# Altium schematic symbol library op-amp-q_0.Schlib: 1 symbol
Pins are listed as number, name and electrical type; pins without a type are passive.

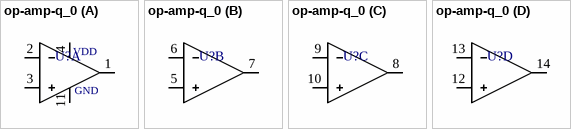
[diagram p0: symbol op-amp-q_0]

## op-amp-q_0
designator U?  (value not drawn)
Op Amp, Quad, Generic
part A pins: 1, 2, 3, 4, 11
part B pins: 5, 6, 7
part C pins: 8, 9, 10
part D pins: 12, 13, 14
part A text: VDD; GND